# Altium schematic symbol library atmega.SchLib: 2 symbols
Pins are listed as number, name and electrical type; pins without a type are passive.

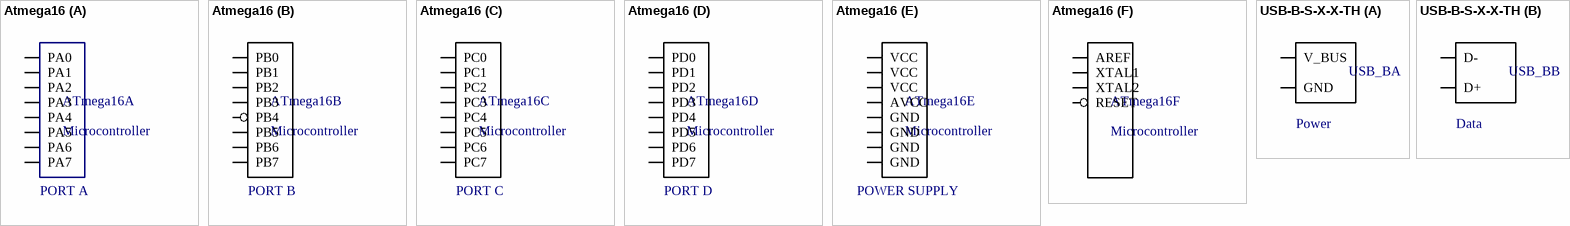
[diagram p0: symbols Atmega16 to USB-B-S-X-X-TH]

## Atmega16
designator ATmega16, comment Microcontroller
Microcontroller with 16k bytes in-system programmable flash; HelpURL: http://www.atmel.com/images/doc2466.pdf
footprint ATmega16-16
part A pins: 30 PA7 "ADC7", 31 PA6 "ADC6", 32 PA5 "ADC5", 33 PA4 "ADC4", 34 PA3 "ADC3", 35 PA2 "ADC2", 36 PA1 "ADC1", 37 PA0 "ADC0"
part B pins: 1 PB5 "MOSI", 2 PB6 "MISO", 3 PB7 "SCK", 40 PB0 "XCK/T0", 41 PB1 "T1", 42 PB2 "AIN0/INT2", 43 PB3 "AIN1/OC0", 44 PB4 "SS"
part C pins: 19 PC0 "SCL", 20 PC1 "SDA", 21 PC2 "TCK", 22 PC3 "TMS", 23 PC4 "TDO", 24 PC5 "TDI", 25 PC6 "TOSC1", 26 PC7 "TOSC2"
part D pins: 9 PD0 "RXD", 10 PD1 "TXD", 11 PD2 "INT0", 12 PD3 "INT1", 13 PD4 "OC1B", 14 PD5 "OC1A", 15 PD6 "ICP1", 16 PD7 "OC2"
part E pins: 5 VCC, 6 GND, 17 VCC, 18 GND, 27 AVCC "Supply voltage pin for Port A and the A/D Converter", 28 GND, 38 VCC, 39 GND
part F pins: 4 RESET, 7 XTAL2 "Output from the inverting Oscillator amplifier", 8 XTAL1 "Input to the inverting Oscillator amplifier and input to the internal clock operating circuit", 29 AREF "Analog reference pin for the A/D Converter"
part A text: PORT A
part B text: PORT B
part C text: PORT C
part D text: PORT D
part E text: POWER SUPPLY

## USB-B-S-X-X-TH
designator USB_B
USB-B interface; HelpURL: http://suddendocs.samtec.com/prints/usb-b-s-x-x-th-x-xx-mkt.pdf
footprint USB_B
part A pins: 1 V_BUS, 4 GND
part B pins: 2 D-, 3 D+
part A text: Power
part B text: Data